# EAGLE library part XH10 (library Traficon)
White connector 10pin connector for connecting Traficam to Eurobox interface
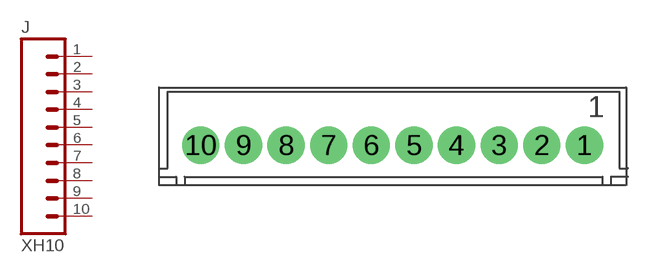
[diagram p64: symbol with the pads of XH10; footprint XH10]

Designator prefix J

## XH10  [XH10]
1  10  pas
2  9  pas
3  8  pas
4  7  pas
5  6  pas
6  5  pas
7  4  pas
8  3  pas
9  2  pas
10  1  pas

## Footprint XH10 (pad centres in mm)
drill 1.1 pad 2.184 round: 1 24.95,2.35; 2 22.45,2.35; 3 19.95,2.35; 4 17.45,2.35; 5 14.95,2.35; 6 12.45,2.35; 7 9.95,2.35; 8 7.45,2.35; 9 4.95,2.35; 10 2.45,2.35